# Altium schematic symbol library PN-13156.Schlib: 1 symbol
Pins are listed as number, name and electrical type; pins without a type are passive.

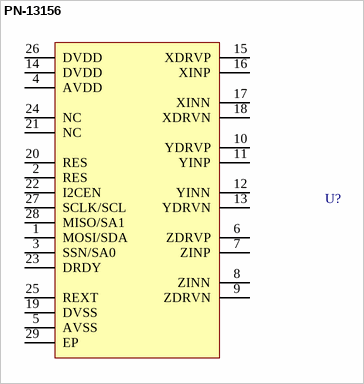
[diagram p0: symbol PN-13156]

## PN-13156
designator U?
Mag-I2C ASIC controller
pins: 1 MOSI/SDA (power), 2 RES (power), 3 SSN/SA0 (power), 4 AVDD (power), 5 AVSS (power), 6 ZDRVP, 7 ZINP, 8 ZINN, 9 ZDRVN, 10 YDRVP, 11 YINP, 12 YINN, 13 YDRVN, 14 DVDD (power), 15 XDRVP (power), 16 XINP (power), 17 XINN, 18 XDRVN, 19 DVSS (power), 20 RES (power), 21 NC (power), 22 I2CEN (power), 23 DRDY (power), 24 NC (power), 25 REXT (power), 26 DVDD (power), 27 SCLK/SCL (power), 28 MISO/SA1 (power), 29 EP (power)